# Altium footprint library pcb_Diode.PcbLib: 30 footprints (part 1 of 2)
Each footprint in its own frame and in the unit in brackets; x right, y up, seen from the top. Pads: shape width x height; smd on the part's side, far side on the other; paste and mask are expansions set on the pad; w line width, h text height; cw(c..) or ccw(c..) is an arc to the next point about the centre after c.
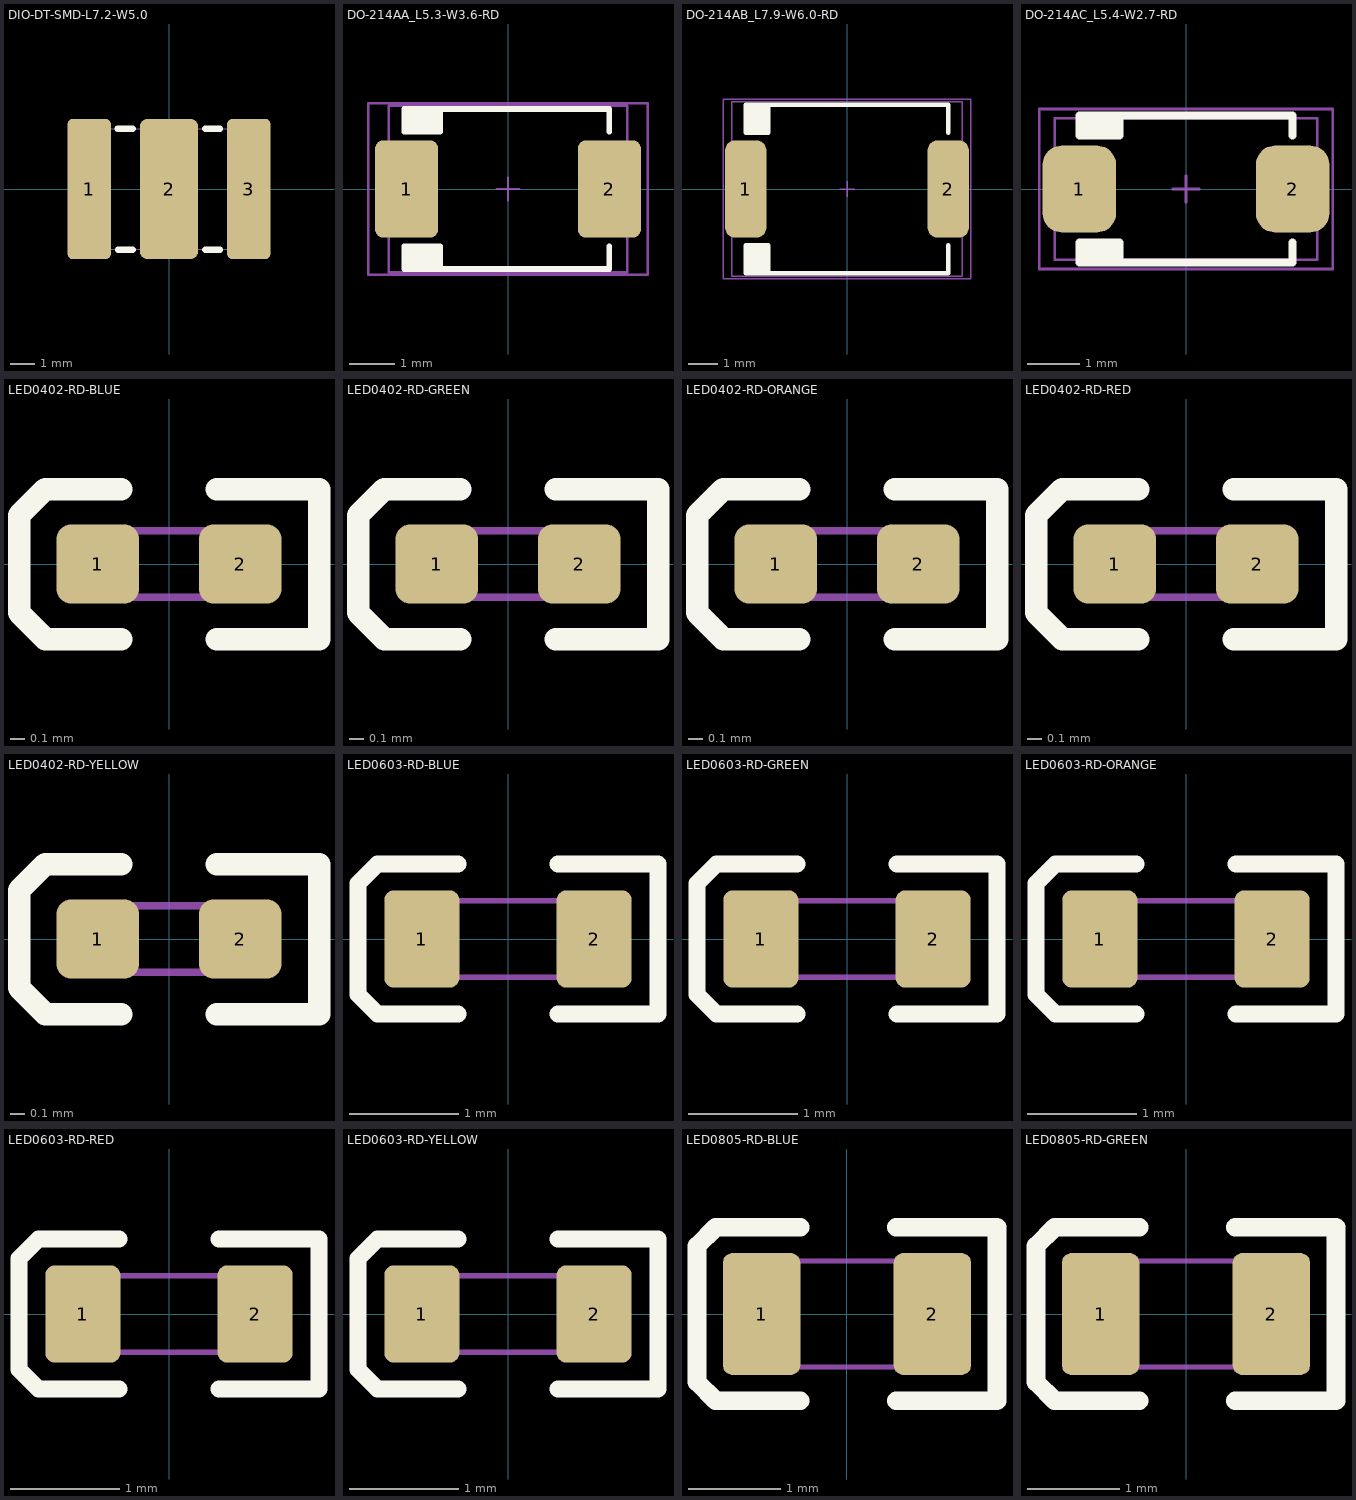
[diagram p0: the footprints below, top view; thin cyan lines are the x and y axes]

## DIO-DT-SMD-L7.2-W5.0 [mm]
pads (3):
  rrect25% 1.8x5.8 smd mask+0.051: 1(-3.3,0) 3(3.3,0)
  rrect25% 2.4x5.8 smd mask+0.051: 2(0,0)
Top Overlay:
  lines w0.254: -2.13,2.49 -1.5,2.49 ; -2.115,-2.51 -1.5,-2.51 ; 1.5,-2.51 2.105,-2.51 ; 1.5,2.49 2.115,2.49
Mechanical 6:
  lines w0.254: -3.6,-2.51 -3.6,2.49 ; 3.6,-2.51 3.6,2.49
Mechanical 15:
  region: -0.75,2.5 0.75,2.5 0.75,-2.5 -0.75,-2.5
  region: 3.2,2.5 3.6,2.5 3.6,-2.5 3.2,-2.5
  region: -3.6,2.5 -3.2,2.5 -3.2,-2.5 -3.6,-2.5
  region: -3.54,-2.5 -3.54,-2.476 -3.575,-2.441 -3.624,-2.441 -3.659,-2.475 -3.66,-2.5 -3.659,-2.524 -3.624,-2.559 -3.576,-2.559 -3.541,-2.524
  lines w0.051: -3.6,-2.5 3.6,-2.5 3.6,2.5 -3.6,2.5 -3.6,-2.5
Mechanical 16:
  text ".Designator" at 0,0 h1
3D body "3D_PCB1_2024-04-03.step": height 5, standoff 0, extent -3.6,-2.5 3.6,2.5

## DO-214AA_L5.3-W3.6-RD [mil] "SMB"
height 104.33
pads (2):
  rrect25% 55x85 smd mask+2: 1(-88.58,0) 2(88.58,0)
Top Overlay:
  region: -59.5,50 -59.5,70 -90.58,70 -90.58,50
  region: -59.5,-50 -59.5,-70 -90.58,-70 -90.58,-50
  lines w5: -59.5,-70 -59.5,-50 -90.58,-50 -90.58,-70 88.58,-70 88.58,-50 ; -59.5,70 -59.5,50 -90.58,50 -90.58,70 88.58,70 88.58,50
Mechanical 13:
  lines w2: -10,0 10,0 ; 0,-10 0,10 ; -104.33,-72.84 -104.33,72.84 104.33,72.84 104.33,-72.84 -104.33,-72.84
Mechanical 14:
  lines w2: -122,-75 122,-75 122,75 -122,75 -122,-75
Mechanical 16:
  text ".Designator" at 0,0 h39.37
3D body "User Library-DO-214AA_SMB.STEP": height 87.65, standoff -0.97, extent -104.33,-72.84 104.33,72.83

## DO-214AB_L7.9-W6.0-RD [mil] "SMC"
height 98.43
pads (2):
  rrect50% 55x130 smd: 1(-135,0) 2(135,0)
Top Overlay:
  region: -105,-74.8 -135,-74.8 -135,-112.05 -105,-112.05
  region: -105,112.05 -135,112.05 -135,74.8 -105,74.8
  lines w6: -105,-112.05 -105,-74.8 -135,-74.8 -135,-112.05 135,-112.05 135,-74.8 ; -105,112.05 -105,74.8 -135,74.8 -135,112.05 135,112.05 135,75
Mechanical 13:
  lines w2: -10,0 10,0 ; 0,-10 0,10 ; -153.54,-116.14 153.54,-116.14 153.54,116.14 -153.54,116.14 -153.54,-116.14
Mechanical 14:
  lines w2: -165,-120 -165,120 165,120 165,-120 -165,-120
Mechanical 16:
  text ".Designator" at 0,0 h39.37
3D body "User Library-DO-214AB-SMC.STEP": height 94.53, standoff -1.97, extent -153.54,-116.14 153.54,116.14

## DO-214AC_L5.4-W2.7-RD [mil] "SMA"
pads (2):
  rrect50% 55x65 smd: 1(-80,0) 2(80,0)
Top Overlay:
  region: -50,-40 -50,-55 -80,-55 -80,-40
  region: -50,40 -50,55 -80,55 -80,40
  lines w6: -50,-55 -50,-40 -80,-40 -80,-55 80,-55 80,-40 ; -50,55 -50,40 -80,40 -80,55 80,55 80,40
Mechanical 13:
  lines w2: -9.99,0.01 10.01,0.01 ; 0.01,-9.99 0.01,10.01 ; -98.44,-53.16 98.41,-53.16 98.41,53.14 -98.44,53.14 -98.44,-53.16
Mechanical 14:
  lines w2: -110,-60 -110,60 110,60 110,-60 -110,-60
Mechanical 16:
  text ".Designator" at 0,0 h39.37
3D body "User Library-DO-214AC_SMA.STEP": height 86.69, standoff 0.03, extent -98.43,-53.16 98.42,53.14

## LED0402-RD-BLUE [mil]
height 31.5
pads (2):
  rrect36% 22x21 smd mask+3: 1(-19,0) 2(19,0)
Top Overlay:
  lines w6: -12.68,-20 -33,-20 -40,-13 -40,13 -33,20 -12.68,20 ; 12.68,-20 40,-20 40,20 12.68,20
Mechanical 11:
  lines w2.01: -18.7,-8.86 -18.7,8.86 18.7,8.86 18.7,-8.86 -18.7,-8.86
Mechanical 16:
  text ".Designator" at 0,0 h39.37
3D body "User Library-led_0402LED0402 blue_.STEP": height 17.72, standoff 0, extent -19.88,-9.84 19.88,9.84

## LED0402-RD-GREEN [mil]
height 31.5
pads (2):
  rrect36% 22x21 smd mask+3: 1(-19,0) 2(19,0)
Top Overlay:
  lines w6: -12.68,-20 -33,-20 -40,-13 -40,13 -33,20 -12.68,20 ; 12.68,-20 40,-20 40,20 12.68,20
Mechanical 11:
  lines w2.01: -18.7,-8.86 18.7,-8.86 18.7,8.86 -18.7,8.86 -18.7,-8.86
Mechanical 16:
  text ".Designator" at 0,0 h39.37
3D body "User Library-led_0402LED0402 green_.STEP": height 17.72, standoff 0, extent -19.88,-9.84 19.88,9.84

## LED0402-RD-ORANGE [mil]
height 31.5
pads (2):
  rrect36% 22x21 smd mask+3: 1(-19,0) 2(19,0)
Top Overlay:
  lines w6: -12.68,-20 -33,-20 -40,-13 -40,13 -33,20 -12.68,20 ; 12.68,-20 40,-20 40,20 12.68,20
Mechanical 11:
  lines w2.01: -18.7,-8.86 18.7,-8.86 18.7,8.86 -18.7,8.86 -18.7,-8.86
Mechanical 16:
  text ".Designator" at 0,0 h39.37
3D body "User Library-led_0402LED0402 orange_.STEP": height 17.72, standoff 0, extent -19.88,-9.84 19.88,9.84

## LED0402-RD-RED [mil]
height 31.5
pads (2):
  rrect36% 22x21 smd mask+3: 1(-19,0) 2(19,0)
Top Overlay:
  lines w6: -12.68,-20 -33,-20 -40,-13 -40,13 -33,20 -12.68,20 ; 12.68,-20 40,-20 40,20 12.68,20
Mechanical 11:
  lines w2.01: -18.7,-8.86 -18.7,8.86 18.7,8.86 18.7,-8.86 -18.7,-8.86
Mechanical 16:
  text ".Designator" at 0,0 h39.37
3D body "User Library-led_0402LED0402 red_.STEP": height 17.72, standoff 0, extent -19.88,-9.84 19.88,9.84

## LED0402-RD-YELLOW [mil]
height 31.5
pads (2):
  rrect36% 22x21 smd mask+3: 1(-19,0) 2(19,0)
Top Overlay:
  lines w6: -12.68,-20 -33,-20 -40,-13 -40,13 -33,20 -12.68,20 ; 12.68,-20 40,-20 40,20 12.68,20
Mechanical 11:
  lines w2.01: -18.7,-8.86 -18.7,8.86 18.7,8.86 18.7,-8.86 -18.7,-8.86
Mechanical 16:
  text ".Designator" at 0,0 h39.37
3D body "User Library-led_0402LED0402 yellow_.STEP": height 17.72, standoff 0, extent -19.88,-9.84 19.88,9.84

## LED0603-RD-BLUE [mil]
height 31.5
pads (2):
  rrect25% 27x35 smd mask+3: 1(-31,0) 2(31,0)
Top Overlay:
  lines w6: -18,-27 -47,-27 -54,-20 -54,20 -47,27 -18,27 ; 18,-27 54,-27 54,27 18,27
Mechanical 11:
  lines w2.01: -29.53,-13.78 -29.53,13.78 29.53,13.78 29.53,-13.78 -29.53,-13.78
Mechanical 16:
  text ".Designator" at 0,0 h39.37
3D body "User Library-led_0603LED0603 blue.STEP": height 23.62, standoff 0, extent -31.89,-15.75 31.89,15.75

## LED0603-RD-GREEN [mil]
height 31.5
pads (2):
  rrect25% 27x35 smd mask+3: 1(-31,0) 2(31,0)
Top Overlay:
  lines w6: -18,-27 -47,-27 -54,-20 -54,20 -47,27 -18,27 ; 18,-27 54,-27 54,27 18,27
Mechanical 11:
  lines w2.01: -29.53,-13.78 29.53,-13.78 29.53,13.78 -29.53,13.78 -29.53,-13.78
Mechanical 16:
  text ".Designator" at 0,0 h39.37
3D body "User Library-led_0603LED0603 green.STEP": height 23.62, standoff 0, extent -31.89,-15.75 31.89,15.75

## LED0603-RD-ORANGE [mil]
height 31.5
pads (2):
  rrect25% 27x35 smd mask+3: 1(-31,0) 2(31,0)
Top Overlay:
  lines w6: -18,-27 -47,-27 -54,-20 -54,20 -47,27 -18,27 ; 18,-27 54,-27 54,27 18,27
Mechanical 11:
  lines w2.01: -29.53,-13.78 29.53,-13.78 29.53,13.78 -29.53,13.78 -29.53,-13.78
Mechanical 16:
  text ".Designator" at 0,0 h39.37
3D body "User Library-led_0603LED0603 orange_.STEP": height 23.62, standoff 0, extent -31.89,-15.75 31.89,15.75

## LED0603-RD-RED [mil]
height 31.5
pads (2):
  rrect25% 27x35 smd mask+3: 1(-31,0) 2(31,0)
Top Overlay:
  lines w6: -18,-27 -47,-27 -54,-20 -54,20 -47,27 -18,27 ; 18,-27 54,-27 54,27 18,27
Mechanical 11:
  lines w2.01: -29.53,-13.78 29.53,-13.78 29.53,13.78 -29.53,13.78 -29.53,-13.78
Mechanical 16:
  text ".Designator" at 0,0 h39.37
3D body "User Library-led_0603LED0603 red.STEP": height 23.62, standoff 0, extent -31.89,-15.75 31.89,15.75

## LED0603-RD-YELLOW [mil]
height 31.5
pads (2):
  rrect25% 27x35 smd mask+3: 1(-31,0) 2(31,0)
Top Overlay:
  lines w6: -18,-27 -47,-27 -54,-20 -54,20 -47,27 -18,27 ; 18,-27 54,-27 54,27 18,27
Mechanical 11:
  lines w2.01: -29.53,-13.78 29.53,-13.78 29.53,13.78 -29.53,13.78 -29.53,-13.78
Mechanical 16:
  text ".Designator" at 0,0 h39.37
3D body "User Library-led_0603LED0603 yellow_.STEP": height 23.62, standoff 0, extent -31.89,-15.75 31.89,15.75

## LED0805-RD-BLUE [mil]
height 47.24
pads (2):
  rrect24% 33x52 smd mask+3: 1(-36.42,0) 2(36.42,0)
Top Overlay:
  lines w8: -20,-37 -56,-37 -64,-29 -64,29 -56,37 -20,37 ; 21,-37 64,-37 64,37 21,37
Mechanical 11:
  lines w2.01: -37.4,-22.64 37.4,-22.64 37.4,22.64 -37.4,22.64 -37.4,-22.64
Mechanical 16:
  text ".Designator" at 0,0 h39.37
3D body "User Library-led_0805LED0805_blue.STEP": height 43.31, standoff 0, extent -39.76,-24.6 39.76,24.61

## LED0805-RD-GREEN [mil]
height 47.24
pads (2):
  rrect24% 33x52 smd mask+3: 1(-36.42,0) 2(36.42,0)
Top Overlay:
  lines w8: -20,-37 -56,-37 -64,-29 -64,29 -56,37 -20,37 ; 21,-37 64,-37 64,37 21,37
Mechanical 11:
  lines w2.01: -37.4,-22.64 -37.4,22.64 37.4,22.64 37.4,-22.64 -37.4,-22.64
Mechanical 16:
  text ".Designator" at 0,0 h39.37
3D body "User Library-led_0805LED0805_green.STEP": height 43.31, standoff 0, extent -39.76,-24.6 39.76,24.61